# EAGLE library part AM8EB056 (library AM8EB056)
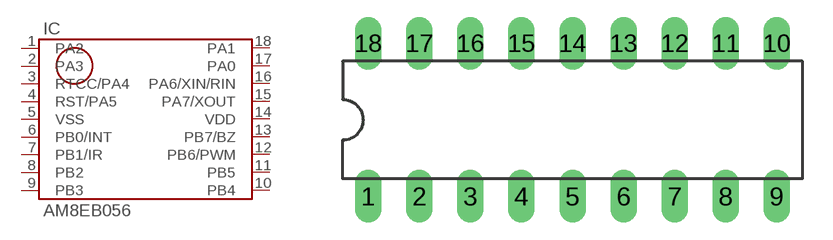
[diagram p0: symbol with the pads of DIL18; footprint DIL18]

Designator prefix IC

## AM8EB056  [DIL18]
1  PA2
2  PA3  pas
3  RTCC/PA4  pas
4  RST/PA5  pas
5  VSS  pwr
6  PB0/INT  pas
7  PB1/IR  pas
8  PB2  pas
9  PB3  pas
10  PB4  pas
11  PB5  pas
12  PB6/PWM  pas
13  PB7/BZ  pas
14  VDD  pwr
15  PA7/XOUT  pas
16  PA6/XIN/RIN  pas
17  PA0  pas
18  PA1  pas

## Footprint DIL18 (pad centres in mm)
drill 0.813 long: 1 -10.16,-3.81; 2 -7.62,-3.81; 3 -5.08,-3.81; 4 -2.54,-3.81; 5 0,-3.81; 6 2.54,-3.81; 7 5.08,-3.81; 8 7.62,-3.81; 9 10.16,-3.81; 10 10.16,3.81; 11 7.62,3.81; 12 5.08,3.81; 13 2.54,3.81; 14 0,3.81; 15 -2.54,3.81; 16 -5.08,3.81; 17 -7.62,3.81; 18 -10.16,3.81